# Altium integrated library SN74HC393N.IntLib: 1 symbol
Pins are listed as number, name and electrical type; pins without a type are passive.

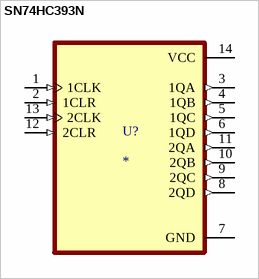
[diagram p0: symbol SN74HC393N]

## SN74HC393N
designator U?
Dual 4-Bit Binary Counters; MF: Texas Instruments; MP: SN74HC393N; SnapEDA_Link: https://www.snapeda.com/parts/SN74HC393N/Texas+Instruments/view-part/?ref=snap; Package: PDIP-14 Texas Instruments; Value: *; Check_prices: https://www.snapeda.com/parts/SN74HC393N/Texas+Instruments/view-part/?ref=eda
footprint DIP794W45P254L1969H508Q14
pins: 1 1CLK (in), 2 1CLR (in), 3 1QA (out), 4 1QB (out), 5 1QC (out), 6 1QD (out), 7 GND (power), 8 2QD (out), 9 2QC (out), 10 2QB (out), 11 2QA (out), 12 2CLR (in), 13 2CLK (in), 14 VCC (power)